# Altium schematic symbol library scatbasic.SchLib: 27 symbols
Pins are listed as number, name and electrical type; pins without a type are passive.

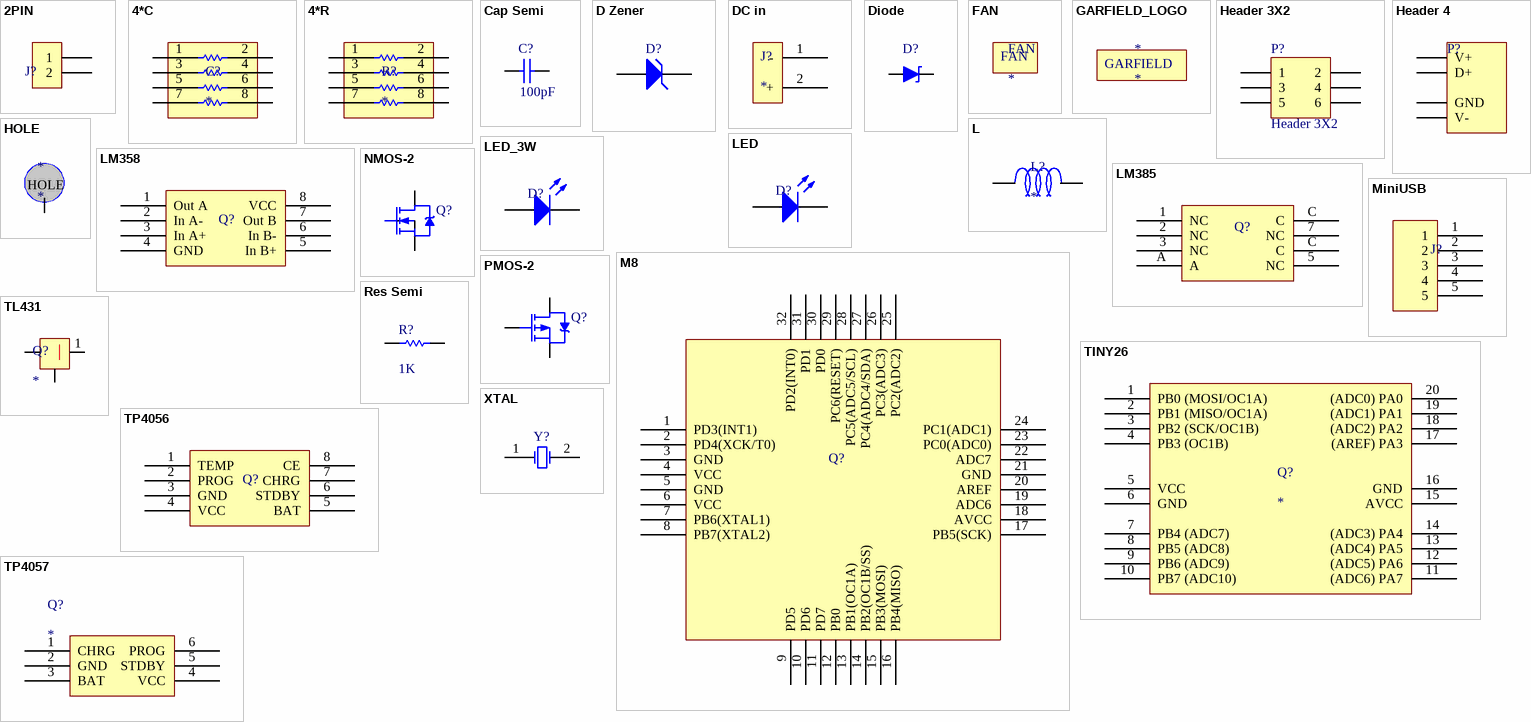
[diagram p0: symbols 2PIN to XTAL]

## 2PIN
designator J?  (value not drawn)
footprint HDR1X2 (Connector; Header; 2 Position)
footprint 2PIN2.54 smd (Connector; Header; 2 Position)
footprint 2PIN5.08 smd
footprint MiniUSB; pin to pad 2>5
footprint Key
footprint 2PIN2.0smd (Connector; Header; 2 Position)
pins: 1, 2

## 4*C
designator C?
footprint 0603_4
pins: 1, 2, 3, 4, 5, 6, 7, 8

## 4*R
designator R?
footprint 0603_4
pins: 1, 2, 3, 4, 5, 6, 7, 8

## Cap Semi
designator C?  value 100pF
Capacitor (Semiconductor SIM Model); Published: 8-Jun-2000; LatestRevisionDate: 17-Jul-2002; LatestRevisionNote: Re-released for DXP Platform.; PackageReference: C1206; Publisher: Altium Limited
footprint C1206 (Chip Capacitor; Body 3.2 x 1.6 mm (LxW typ))
footprint 0805
footprint 0603
pins: 1, 2

## D Zener
designator D?
Zener Diode; Published: 8-Jun-2000; LatestRevisionDate: 17-Jul-2002; LatestRevisionNote: Re-released for DXP Platform.; PackageReference: DIODE-0.7; Publisher: Altium Limited
footprint 1206
pins: 1 A, 2 K

## DC in
designator J?
footprint DC5.5
pins: 1 -, 2 +

## Diode
designator D?
Default Diode; Published: 8-Jun-2000; LatestRevisionDate: 17-Jul-2002; LatestRevisionNote: Re-released for DXP Platform.; PackageDocument: Sep-1996; PackageReference: SMC; Publisher: Altium Limited; Code_JEDEC: DO-214-AB
pins: 1 A, 2 K

## FAN
designator FAN
footprint FAN

## GARFIELD_LOGO
designator *
footprint GARFIELD
text: GARFIELD

## Header 3X2
designator P?
Header, 3-Pin, Dual row; LatestRevisionDate: 17-Jul-2002; LatestRevisionNote: Re-released for DXP Platform.; Publisher: Altium Limited
footprint HDR2X3 (Connector; Header; 3x2 Position)
footprint HDR2X3 - smd (Connector; Header; 3x2 Position)
pins: 1, 2, 3, 4, 5, 6

## Header 4
designator P?
Header, 4-Pin; LatestRevisionDate: 17-Jul-2002; LatestRevisionNote: Re-released for DXP Platform.; Publisher: Altium Limited
footprint 4PIN5.08
pins: 1 V-, 2 GND, 3 D+, 4 V+

## HOLE
designator *
footprint M3 HOLE
pins: 0

## L
designator L?
footprint HDR1X2 (Connector; Header; 2 Position)
pins: 1, 2

## LED
designator D?  (value not drawn)
footprint 0805
pins: 1 A, 2 K

## LED_3W
designator D?  (value not drawn)
footprint 0805
footprint 2PIN5.08 smd
footprint 2PIN2.0smd (Connector; Header; 2 Position)
pins: 1 A, 2 K

## LM358
designator Q?  (value not drawn)
footprint SO8
pins: 1 Out A, 2 In A-, 3 In A+, 4 GND, 5 In B+, 6 In B-, 7 Out B, 8 VCC

## LM385
designator Q?  (value not drawn)
footprint SO8 SOT23
pins: 1 NC, 2 NC, 3 NC, 5 NC, 7 NC, A, C, C

## M8
designator Q?  (value not drawn)
footprint TQFP32
pins: 1 PD3(INT1), 2 PD4(XCK/T0), 3 GND, 4 VCC, 5 GND, 6 VCC, 7 PB6(XTAL1), 8 PB7(XTAL2), 9 PD5, 10 PD6, 11 PD7, 12 PB0, 13 PB1(OC1A), 14 PB2(OC1B/SS), 15 PB3(MOSI), 16 PB4(MISO), 17 PB5(SCK), 18 AVCC, 19 ADC6, 20 AREF, 21 GND, 22 ADC7, 23 PC0(ADC0), 24 PC1(ADC1), 25 PC2(ADC2), 26 PC3(ADC3), 27 PC4(ADC4/SDA), 28 PC5(ADC5/SCL), 29 PC6(RESET), 30 PD0, 31 PD1, 32 PD2(INT0)

## MiniUSB
designator J?  (value not drawn)
footprint MiniUSB
pins: 1, 2, 3, 4, 5

## NMOS-2
designator Q?  (value not drawn)
N-Channel Power MOSFET; Note: Pin 2 is electrically connected to pin 4.; Published: 8-Jun-2000; LatestRevisionDate: 17-Jul-2002; LatestRevisionNote: Re-released for DXP Platform.; DatasheetDocument: PD-9.814; PackageReference: TO-220AB; Publisher: Altium Limited; Code_JEDEC: TO-220-AB; ComponentLink1Description: Manufacturer Link; ComponentLink1URL: http://www.irf.com/
footprint TO220
footprint SOT23 (SOT-23; 3 Leads; Body 3.1 x 2.5 mm, inc. leads (LxW max), Alternate Lead Configuration)
footprint TO220 - yk25
pins: 0, 1 G, 2 D, 3 S

## PMOS-2
designator Q?
P-Channel Power MOSFET; Note: Pin 4 not drawn and electrically connected to Pin 2.; Published: 8-Jun-2000; LatestRevisionDate: 17-Jul-2002; LatestRevisionNote: Re-released for DXP Platform.; DatasheetDocument: PD-9.390D; PackageReference: TO-220AB; Publisher: Altium Limited; Code_JEDEC: TO-220-AB; ComponentLink1Description: Manufacturer Link; ComponentLink1URL: http://www.irf.com/
footprint SOT23 (SOT-23; 3 Leads; Body 3.1 x 2.5 mm, inc. leads (LxW max), Alternate Lead Configuration)
footprint SO8 - PMOS
pins: 1 G, 2 D, 3 S

## Res Semi
designator R?  value 1K  (hidden comment: Res Semi)
Semiconductor Resistor; Published: 8-Jun-2000; LatestRevisionDate: 17-Jul-2002; LatestRevisionNote: Re-released for DXP Platform.; PackageReference: AXIAL-0.5; Publisher: Altium Limited
footprint 3216[1206] (Chip Resistor; Body 3.2 x 1.6 mm (LxW typ))
footprint 0603
footprint 2PIN2.54 smd (Connector; Header; 2 Position)
footprint 2PIN2.0smd (Connector; Header; 2 Position)
footprint 0805
pins: 1, 2

## TINY26
designator Q?
footprint ATMEGA26
pins: 1 PB0 (MOSI/OC1A), 2 PB1 (MISO/OC1A), 3 PB2 (SCK/OC1B), 4 PB3 (OC1B), 5 VCC, 6 GND, 7 PB4 (ADC7), 8 PB5 (ADC8), 9 PB6 (ADC9), 10 PB7 (ADC10), 11 (ADC6) PA7, 12 (ADC5) PA6, 13 (ADC4) PA5, 14 (ADC3) PA4, 15 AVCC, 16 GND, 17 (AREF) PA3, 18 (ADC2) PA2, 19 (ADC1) PA1, 20 (ADC0) PA0

## TL431
designator Q?
footprint SOT23 (SOT-23; 3 Leads; Body 3.1 x 2.5 mm, inc. leads (LxW max), Alternate Lead Configuration)
pins: 1 CATHODE, 2 ANODE, 3 REF

## TP4056
designator Q?  (value not drawn)
footprint SO8 - pp
pins: 1 TEMP, 2 PROG, 3 GND, 4 VCC, 5 BAT, 6 STDBY, 7 CHRG, 8 CE

## TP4057
designator Q?
footprint SOT26
pins: 1 CHRG, 2 GND, 3 BAT, 4 VCC, 5 STDBY, 6 PROG

## XTAL
designator Y?  (value not drawn)
Crystal Oscillator; Published: 8-Jun-2000; LatestRevisionDate: 17-Jul-2002; LatestRevisionNote: Re-released for DXP Platform.; PackageReference: R38; Publisher: Altium Limited
footprint XTAL
pins: 1 OSC1, 2 OSC2